# EAGLE library part 416131160806 (library Switches_rev16a)
WS-HP-1.27 mm small compact SMD Dip Switch with top tape,12 pins,6 poles
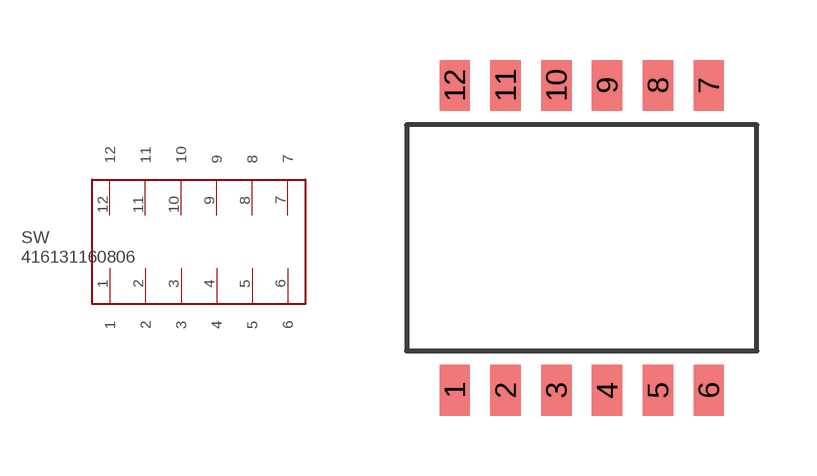
[diagram p27: symbol with the pads of 416131160806; footprint 416131160806]

Designator prefix SW

## 416131160806  [416131160806]
1  1
2  2
3  3
4  4
5  5
6  6
7  7
8  8
9  9
10  10
11  11
12  12

## Footprint 416131160806 (pad centres in mm)
WS-HP-1.27 mm small compact SMD Dip Switch with top tape,12 pins,6 poles
smd 0.76 x 1.27: 1 -3.175,-3.81; 2 -1.905,-3.81; 3 -0.635,-3.81; 4 0.635,-3.81; 5 1.905,-3.81; 6 3.175,-3.81; 7 3.175,3.81; 8 1.905,3.81; 9 0.635,3.81; 10 -0.635,3.81; 11 -1.905,3.81; 12 -3.175,3.81